# Altium schematic symbol library EPC_2019Q3.schlib: 54 symbols
Pins are listed as number, name and electrical type; pins without a type are passive.

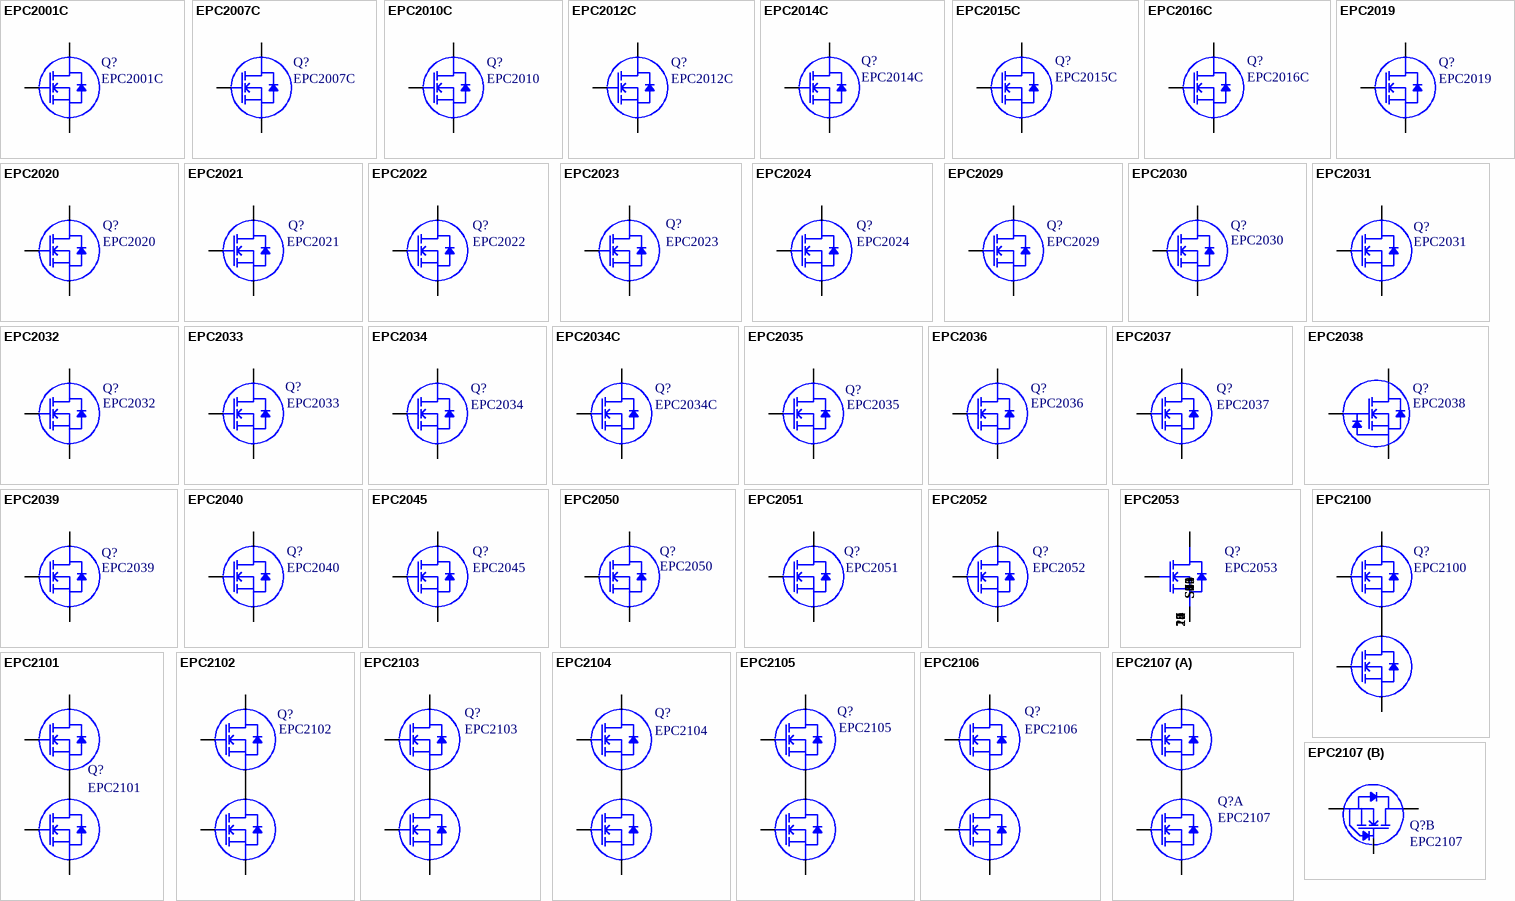
[diagram p0: symbols EPC2001C to EPC2107]

## EPC2001C
designator Q?
100V 25A 7mE; PCBfootprint: EPC2x40L; MFG: EPC; Config: *; Supplier 1: Digi-Key; Supplier 2: Digi-Key; Supplier 3: Digi-Key; Supplier Part Number 1: 917-1079-1-ND; Supplier Part Number 2: 917-1079-6-ND; Supplier Part Number 3: 917-1079-2-ND; Value: 100V 25A 7mE; MFGPN: EPC2001C
footprint D0188
pins: 1 G, 2 Sub (oe), 3 D1 (oc), 4 S1 (oe), 5 D2 (oc), 6 S2 (oe), 7 D3 (oc), 8 S3 (oe), 9 D4 (oc), 10 S4 (oe), 11 D5 (oc)

## EPC2007C
designator Q?
100V 6A 30mE; PCBfootprint: EPC2x40S; MFG: EPC; Config: *; Supplier 1: Digi-Key; Supplier 2: Digi-Key; Supplier 3: Digi-Key; Supplier Part Number 1: 917-1081-2-ND; Supplier Part Number 2: 917-1081-1-ND; Supplier Part Number 3: 917-1081-6-ND; Value: 100V 6A 30mE; MFGPN: EPC2007C
footprint D0199 (Footprint not found)
pins: 1 G, 2 Sub (oe), 3 D1 (oc), 4 S1 (oe), 5 D2 (oc)

## EPC2010C
designator Q?, comment EPC2010
200V 12A 25mE; PCBfootprint: EPC2x200L; MFG: EPC; Config: *; Supplier 1: Digi-Key; Supplier 2: Digi-Key; Supplier 3: Digi-Key; Supplier Part Number 1: 917-1085-6-ND; Supplier Part Number 2: 917-1085-1-ND; Supplier Part Number 3: 917-1085-2-ND; Value: 200V 12A 25mE; MFGPN: EPC2010
footprint D0309 (Footprint not found)
pins: 1 G, 2 Sub (oe), 3 D1 (oc), 4 S1 (oe), 5 D2 (oc), 6 S2 (oe), 7 D3 (oc)

## EPC2012C
designator Q?
200V 3A 100mE; PCBfootprint: EPC2x200S; MFG: EPC; Config: *; Supplier 1: Digi-Key; Supplier 2: Digi-Key; Supplier 3: Digi-Key; Supplier Part Number 1: 917-1084-2-ND; Supplier Part Number 2: 917-1084-1-ND; Supplier Part Number 3: 917-1084-6-ND; Value: 200V 3A 100mE; MFGPN: EPC2012C
footprint D0375 (Footprint not found)
pins: 1 G, 2 Sub (oe), 3 D (oc), 4 S (oe)

## EPC2014C
designator Q?
40V 10A 16mE; PCBfootprint: EPC2x40S; MFG: EPC; Config: *; Supplier 1: Digi-Key; Supplier 2: Digi-Key; Supplier 3: Digi-Key; Supplier Part Number 1: 917-1082-1-ND; Supplier Part Number 2: 917-1082-6-ND; Supplier Part Number 3: 917-1082-2-ND; Value: 40V 10A 16mE; MFGPN: EPC2014C
footprint D0199 (Footprint not found)
pins: 1 G, 2 Sub (oe), 3 D1 (oc), 4 S1 (oe), 5 D2 (oc)

## EPC2015C
designator Q?
40V 33A 4mE; PCBfootprint: EPC2x40L; MFG: EPC; Config: *; Supplier 1: Digi-Key; Supplier 2: Digi-Key; Supplier 3: Digi-Key; Supplier Part Number 1: 917-1083-6-ND; Supplier Part Number 2: 917-1083-2-ND; Supplier Part Number 3: 917-1083-1-ND; Value: 40V 33A 4mE; MFGPN: EPC2015C
footprint D0188 (Footprint not found)
pins: 1 G, 2 Sub (oe), 3 D1 (oc), 4 S1 (oe), 5 D2 (oc), 6 S2 (oe), 7 D3 (oc), 8 S3 (oe), 9 D4 (oc), 10 S4 (oe), 11 D5 (oc)

## EPC2016C
designator Q?
100V 11A 16mE; PCBfootprint: EPC2x40M; MFG: EPC; Config: *; Supplier 1: Digi-Key; Supplier 2: Digi-Key; Supplier 3: Digi-Key; Supplier Part Number 1: 917-1080-1-ND; Supplier Part Number 2: 917-1080-6-ND; Supplier Part Number 3: 917-1080-2-ND; Value: 100V 11A 16mE; MFGPN: EPC2016C
footprint D0155 (Footprint not found)
pins: 1 G, 2 Sub (oe), 3 D1 (oc), 4 SP1 (oe), 5 D2 (oc), 6 SP2 (oe)

## EPC2019
designator Q?
200V 9A 43mE; PCBfootprint: M5_200V; MFG: EPC; Config: *; Supplier 1: Digi-Key; Supplier 2: Digi-Key; Supplier 3: Digi-Key; Supplier Part Number 1: 917-1087-1-ND; Supplier Part Number 2: 917-1087-2-ND; Supplier Part Number 3: 917-1087-6-ND; Value: 200V 9A 43mE; MFGPN: EPC2019
footprint D0364 (Footprint not found)
pins: 1 G, 2 S3 (oe), 3 D1 (oc), 4 S1 (oe), 5 D2 (oc), 6 S2 (oe), 7 Sub (oe)

## EPC2020
designator Q?
60V 60A 2.2mE; PCBfootprint: eGaNPAK; MFG: EPC; Config: *; Supplier 1: Digi-Key; Supplier 2: Digi-Key; Supplier 3: Digi-Key; Supplier Part Number 1: 917-1105-1-ND; Supplier Part Number 2: 917-1105-2-ND; Supplier Part Number 3: 917-1105-6-ND; Value: 60V 60A 2.2mE; MFGPN: EPC2020
footprint D0232 (Footprint not found)
pins: 1 G, 2 S1 (oe), 3 D1 (oc), 4 D1 (oc), 5 S2 (oe), 6 S3 (oe), 7 D2 (oc), 8 D3 (oc), 9 S4 (oe), 10 S5 (oe), 11 D4 (oc), 12 D5 (oc), 13 S6 (oe), 14 S7 (oe), 15 D6 (oc), 16 D7 (oc), 17 S8 (oe), 18 S9 (oe), 19 D8 (oc), 20 D9 (oc), 21 S10 (oe), 22 S11 (oe), 23 D10 (oc), 24 D11 (oc), 25 S12 (oe), 26 S13 (oe), 27 D12 (oc), 28 D13 (oc), 29 S14 (oe), 30 Sub (oe)

## EPC2021
designator Q?
80V 60A 2.5mE; PCBfootprint: eGaNPAK; MFG: EPC; Config: *; Supplier 1: Digi-Key; Supplier 2: Digi-Key; Supplier 3: Digi-Key; Supplier Part Number 1: 917-1089-1-ND; Supplier Part Number 2: 917-1089-2-ND; Supplier Part Number 3: 917-1089-6-ND; Value: 80V 60A 2.5mE; MFGPN: EPC2021
footprint D0232 (Footprint not found)
pins: 1 G, 2 S1 (oe), 3 D1 (oc), 4 D2 (oc), 5 S2 (oe), 6 S3 (oe), 7 D3 (oc), 8 D4 (oc), 9 S4 (oe), 10 S5 (oe), 11 D5 (oc), 12 D6 (oc), 13 S6 (oe), 14 S7 (oe), 15 D7 (oc), 16 D8 (oc), 17 S8 (oe), 18 S9 (oe), 19 D9 (oc), 20 D10 (oc), 21 S10 (oe), 22 S11 (oe), 23 D11 (oc), 24 D12 (oc), 25 S12 (oe), 26 S13 (oe), 27 D13 (oc), 28 D14 (oc), 29 S14 (oe), 30 Sub (oe)

## EPC2022
designator Q?
100V 60A 3.2mE; PCBfootprint: eGaNPAK; MFG: EPC; Config: *; Supplier 1: Digi-Key; Supplier 2: Digi-Key; Supplier 3: Digi-Key; Supplier Part Number 1: 917-1133-2-ND; Supplier Part Number 2: 917-1133-1-ND; Supplier Part Number 3: 917-1133-6-ND; Value: 100V 60A 3.2mE; MFGPN: EPC2022
footprint D0232 (Footprint not found)
pins: 1 G, 2 S1 (oe), 3 D1 (oc), 4 D2 (oc), 5 S2 (oe), 6 S3 (oe), 7 D3 (oc), 8 D4 (oc), 9 S4 (oe), 10 S5 (oe), 11 D5 (oc), 12 D6 (oc), 13 S6 (oe), 14 S7 (oe), 15 D7 (oc), 16 D8 (oc), 17 S8 (oe), 18 S9 (oe), 19 D9 (oc), 20 D10 (oc), 21 S10 (oe), 22 S11 (oe), 23 D11 (oc), 24 D12 (oc), 25 S12 (oe), 26 S13 (oe), 27 D13 (oc), 28 D14 (oc), 29 S14 (oe), 30 Sub (oe)

## EPC2023
designator Q?
30V 60A 1.3mE; PCBfootprint: eGaNPAK; MFG: EPC; Config: *; Supplier 1: Digi-Key; Supplier 2: Digi-Key; Supplier 3: Digi-Key; Supplier Part Number 1: 917-EPC2023ENGRTR-ND; Supplier Part Number 2: 917-EPC2023ENGRDKR-ND; Supplier Part Number 3: 917-EPC2023ENGRCT-ND; Value: 30V 60A 1.3mE; MFGPN: EPC2023
footprint D0232 (Footprint not found)
pins: 1 G, 2 S1 (oe), 3 D1 (oc), 4 D2 (oc), 5 S2 (oe), 6 S3 (oe), 7 D3 (oc), 8 D4 (oc), 9 S4 (oe), 10 S5 (oe), 11 D5 (oc), 12 D6 (oc), 13 S6 (oe), 14 S7 (oe), 15 D7 (oc), 16 D8 (oc), 17 S8 (oe), 18 S9 (oe), 19 D9 (oc), 20 D10 (oc), 21 S10 (oe), 22 S11 (oe), 23 D11 (oc), 24 D12 (oc), 25 S12 (oe), 26 S13 (oe), 27 D13 (oc), 28 D14 (oc), 29 S14 (oe), 30 Sub (oe)

## EPC2024
designator Q?
40V 60A 1.5mE; PCBfootprint: eGaNPAK; MFG: EPC; Config: *; Supplier 1: Digi-Key; Supplier 2: Digi-Key; Supplier 3: Digi-Key; Supplier Part Number 1: 917-1106-2-ND; Supplier Part Number 2: 917-1106-1-ND; Supplier Part Number 3: 917-1106-6-ND; Value: 40V 60A 1.5mE; MFGPN: EPC2024
footprint D0232 (Footprint not found)
pins: 1 G, 2 S1 (oe), 3 D1 (oc), 4 D2 (oc), 5 S2 (oe), 6 S3 (oe), 7 D3 (oc), 8 D4 (oc), 9 S4 (oe), 10 S5 (oe), 11 D5 (oc), 12 D6 (oc), 13 S6 (oe), 14 S7 (oe), 15 D7 (oc), 16 D8 (oc), 17 S8 (oe), 18 S9 (oe), 19 D9 (oc), 20 D10 (oc), 21 S10 (oe), 22 S11 (oe), 23 D11 (oc), 24 D12 (oc), 25 S12 (oe), 26 S13 (oe), 27 D13 (oc), 28 D14 (oc), 29 S14 (oe), 30 Sub (oe)

## EPC2029
designator Q?
80V 3.2mE; PCBfootprint: eGaNPAK; MFG: EPC; Config: *; Supplier 1: Digi-Key; Supplier 2: Digi-Key; Supplier 3: Digi-Key; Supplier Part Number 1: 917-1107-1-ND; Supplier Part Number 2: 917-1107-2-ND; Supplier Part Number 3: 917-1107-6-ND; Value: 80V 3.2mE; MFGPN: EPC2029
footprint D0386T3 (Footprint not found)
footprint D0386T4 (Footprint not found)
pins: 1 G, 2 G, 3 S1 (oe), 4 S2 (oe), 5 D1 (oc), 6 D2 (oc), 7 D3 (oc), 8 D4 (oc), 9 D5 (oc), 10 S3 (oe), 11 S4 (oe), 12 Sub (oe), 13 S5 (oe), 14 S6 (oe), 15 D6 (oc), 16 D7 (oc), 17 D8 (oc), 18 D9 (oc), 19 D10 (oc), 20 S7 (oe), 21 S8 (oe), 22 S9 (oe), 23 S10 (oe), 24 S11 (oe)

## EPC2030
designator Q?
40V 2.4mE; PCBfootprint: eGaNPAK; MFG: EPC; Config: *; Supplier 1: Digi-Key; Supplier 2: Digi-Key; Supplier 3: Digi-Key; Supplier Part Number 1: 917-EPC2030ENGRCT-ND; Supplier Part Number 2: 917-EPC2030ENGRTR-ND; Supplier Part Number 3: 917-EPC2030ENGRDKR-ND; Value: 40V 2.4mE; MFGPN: EPC2030
footprint D0386T3 (Footprint not found)
footprint D0386T4 (Footprint not found)
pins: 1 G, 2 G, 3 S1 (oe), 4 S2 (oe), 5 D1 (oc), 6 D2 (oc), 7 D3 (oc), 8 D4 (oc), 9 D5 (oc), 10 S3 (oe), 11 S4 (oe), 12 Sub (oe), 13 S5 (oe), 14 S6 (oe), 15 D6 (oc), 16 D7 (oc), 17 D8 (oc), 18 D9 (oc), 19 D10 (oc), 20 S7 (oe), 21 S8 (oe), 22 S9 (oe), 23 S10 (oe), 24 S11 (oe)

## EPC2031
designator Q?
60V 2.6mE; PCBfootprint: eGaNPAK; MFG: EPC; Config: *; Supplier 1: Digi-Key; Supplier 2: Digi-Key; Supplier 3: Digi-Key; Supplier Part Number 1: 917-EPC2031ENGRDKR-ND; Supplier Part Number 2: 917-EPC2031ENGRTR-ND; Supplier Part Number 3: 917-EPC2031ENGRCT-ND; Value: 60V 2.6mE; MFGPN: EPC2031
footprint D0386T3 (Footprint not found)
footprint D0386T4 (Footprint not found)
pins: 1 G, 2 G, 3 S1 (oe), 4 S2 (oe), 5 D1 (oc), 6 D2 (oc), 7 D3 (oc), 8 D4 (oc), 9 D5 (oc), 10 S3 (oe), 11 S4 (oe), 12 Sub (oe), 13 S5 (oe), 14 S6 (oe), 15 D6 (oc), 16 D7 (oc), 17 D8 (oc), 18 D9 (oc), 19 D10 (oc), 20 S7 (oe), 21 S8 (oe), 22 S9 (oe), 23 S10 (oe), 24 S11 (oe)

## EPC2032
designator Q?
100V 4mE; PCBfootprint: eGaNPAK; MFG: EPC; Config: *; Value: 100V 4mE; Supplier 1: Digi-Key; Supplier 2: Digi-Key; Supplier 3: Digi-Key; Supplier Part Number 1: 917-1126-6-ND; Supplier Part Number 2: 917-1126-2-ND; Supplier Part Number 3: 917-1126-1-ND; MFGPN: EPC2032
footprint D0386T3 (Footprint not found)
footprint D0386T4 (Footprint not found)
pins: 1 G, 2 G, 3 S1 (oe), 4 S2 (oe), 5 D1 (oc), 6 D2 (oc), 7 D3 (oc), 8 D4 (oc), 9 D5 (oc), 10 S3 (oe), 11 S4 (oe), 12 Sub (oe), 13 S5 (oe), 14 S6 (oe), 15 D6 (oc), 16 D7 (oc), 17 D8 (oc), 18 D9 (oc), 19 D10 (oc), 20 S7 (oe), 21 S8 (oe), 22 S9 (oe), 23 S10 (oe), 24 S11 (oe)

## EPC2033
designator Q?
150V 7mE; PCBfootprint: eGaNPAK; MFG: EPC; Config: *; Value: 150V 7mE; Supplier 1: Digi-Key; Supplier 2: Digi-Key; Supplier 3: Digi-Key; Supplier Part Number 1: 917-EPC2033ENGRTR-ND; Supplier Part Number 2: 917-EPC2033ENGRCT-ND; Supplier Part Number 3: 917-EPC2033ENGRDKR-ND; MFGPN: EPC2033
footprint D0386T3 (Footprint not found)
footprint D0386T4 (Footprint not found)
pins: 1 G, 2 G, 3 S1 (oe), 4 S2 (oe), 5 D1 (oc), 6 D2 (oc), 7 D3 (oc), 8 D4 (oc), 9 D5 (oc), 10 S3 (oe), 11 S4 (oe), 12 Sub (oe), 13 S5 (oe), 14 S6 (oe), 15 D6 (oc), 16 D7 (oc), 17 D8 (oc), 18 D9 (oc), 19 D10 (oc), 20 S7 (oe), 21 S8 (oe), 22 S9 (oe), 23 S10 (oe), 24 S11 (oe)

## EPC2034
designator Q?
200V 10mE; PCBfootprint: eGaNPAK; MFG: EPC; Config: *; Value: 200V 10mE; Supplier 1: Digi-Key; Supplier 2: Digi-Key; Supplier 3: Digi-Key; Supplier Part Number 1: 917-EPC2034ENGRCT-ND; Supplier Part Number 2: 917-EPC2034ENGRTR-ND; Supplier Part Number 3: 917-EPC2034ENGRDKR-ND; MFGPN: EPC2034
footprint D0386T3 (Footprint not found)
footprint D0386T4 (Footprint not found)
pins: 1 G, 2 G, 3 S1 (oe), 4 S2 (oe), 5 D1 (oc), 6 D2 (oc), 7 D3 (oc), 8 D4 (oc), 9 D5 (oc), 10 S3 (oe), 11 S4 (oe), 12 Sub (oe), 13 S5 (oe), 14 S6 (oe), 15 D6 (oc), 16 D7 (oc), 17 D8 (oc), 18 D9 (oc), 19 D10 (oc), 20 S7 (oe), 21 S8 (oe), 22 S9 (oe), 23 S10 (oe), 24 S11 (oe)

## EPC2034C
designator Q?
200V 8mE; PCBfootprint: eGaNPAK; MFG: EPC; Config: *; Value: 200V 8mE; Supplier 1: Digi-Key; Supplier 2: Digi-Key; Supplier 3: Digi-Key; Supplier Part Number 1: 917-1214-1-ND; Supplier Part Number 2: 917-1214-6-ND; Supplier Part Number 3: 917-1214-2-ND; MFGPN: EPC2034C
footprint D0386T3 (Footprint not found)
footprint D0386T4 (Footprint not found)
pins: 1 G, 2 G, 3 S1 (oe), 4 S2 (oe), 5 D1 (oc), 6 D2 (oc), 7 D3 (oc), 8 D4 (oc), 9 D5 (oc), 10 S3 (oe), 11 S4 (oe), 12 Sub (oe), 13 S5 (oe), 14 S6 (oe), 15 D6 (oc), 16 D7 (oc), 17 D8 (oc), 18 D9 (oc), 19 D10 (oc), 20 S7 (oe), 21 S8 (oe), 22 S9 (oe), 23 S10 (oe), 24 S11 (oe)

## EPC2035
designator Q?
60V 45mE; MFG: EPC; Config: *; Footprint: EPC2Xby2; Supplier 1: Digi-Key; Supplier 2: Digi-Key; Supplier 3: Digi-Key; Value: 60V 45mE; Supplier Part Number 1: 917-1099-2-ND; Supplier Part Number 2: 917-1099-6-ND; Supplier Part Number 3: 917-1099-1-ND; MFGPN: EPC2035
footprint D0353 (Footprint not found)
pins: 1 G, 2 S1 (oe), 3 D1 (oc), 4 S2 (oe)

## EPC2036
designator Q?
100V 65mE; MFG: EPC; Cinfig: *; Footprint: EPC2Xby2; Supplier 1: Digi-Key; Supplier 2: Digi-Key; Supplier 3: Digi-Key; Value: 100V 65mE; Supplier Part Number 2: 917-1100-2-ND; Supplier Part Number 3: 917-1100-6-ND; Supplier Part Number 1: 917-1100-1-ND; MFGPN: EPC2036
footprint D0353 (Footprint not found)
pins: 1 G, 2 S1 (oe), 3 D1 (oc), 4 S2 (oe)

## EPC2037
designator Q?
100V 550mE; MFG: EPC; Config: *; Footprint: EPC2Xby2; Supplier 1: Digi-Key; Supplier 2: Digi-Key; Supplier 3: Digi-Key; Value: 100V 550mE; Supplier Part Number 1: 917-EPC2037ENGRTR-ND; Supplier Part Number 2: 917-EPC2037ENGRCT-ND; Supplier Part Number 3: 917-EPC2037ENGRDKR-ND; MFGPN: EPC2037
footprint D0353 (Footprint not found)
pins: 1 G, 2 S1 (oe), 3 D1 (oc), 4 S2 (oe)

## EPC2038
designator Q?
100V 2800mE; MFG: EPC; Config: *; Footprint: EPC2Xby2; Supplier 1: Digi-Key; Supplier 2: Digi-Key; Supplier 3: Digi-Key; Value: 100V 2800mE; Supplier Part Number 2: 917-1138-2-ND; Supplier Part Number 3: 917-1138-6-ND; Supplier Part Number 1: 917-1138-1-ND; MFGPN: EPC2038
footprint D0353 (Footprint not found)
pins: 1 G, 2 S1 (oe), 3 D1 (oc), 4 S2 (oe)

## EPC2039
designator Q?
80V 22mE; MFG: EPC; Config: *; Footprint: EPC3Xby3; Supplier 1: Digi-Key; Supplier 2: Digi-Key; Supplier 3: Digi-Key; Value: 80V 22mE; Supplier Part Number 1: 917-1147-1-ND; Supplier Part Number 2: 917-1147-2-ND; Supplier Part Number 3: 917-1147-6-ND; MFGPN: EPC2039
footprint D0144 (Footprint not found)
pins: 1 G, 2 S1 (oe), 3 S2 (oe), 4 D1 (oc), 5 D2 (oc), 6 D3 (oc), 7 D4 (oc), 8 S3 (oe), 9 S4 (oe)

## EPC2040
designator Q?
15V 3.4A 28mE; PCBfootprint: EPC2x3; MFG: EPC; Config: *; Supplier 1: Digi-Key; Supplier 2: Digi-Key; Supplier 3: Digi-Key; Value: 15V 3.4A 28mE; Supplier Part Number 1: 917-1153-2-ND; Supplier Part Number 2: 917-1153-1-ND; Supplier Part Number 3: 917-1153-6-ND; MFGPN: EPC2040
footprint D0210 (Footprint not found)
pins: 1 G, 2 D1 (oc), 3 S1 (oe), 4 S2 (oe), 5 D2 (oc), 6 S3 (oe)

## EPC2045
designator Q?
100V Gen5 25A 9mE; PCBfootprint: Gen5_100VB; MFG: EPC; Value: 100V 25A 9mE; Config: *; Supplier 1: Digi-Key; Supplier 2: Digi-Key; Supplier 3: Digi-Key; Supplier Part Number 1: 917-EPC2045ENGRTR-ND; Supplier Part Number 2: 917-EPC2045ENGRDKR-ND; Supplier Part Number 3: 917-EPC2045ENGRCT-ND; MFGPN: EPC2045
footprint D0012 (Footprint not found)
pins: 1 G, 2 S1 (oe), 3 S2 (oe), 4 D1 (oc), 5 D2 (oc), 6 D3 (oc), 7 S3 (oe), 8 Sub (oe), 9 S4 (oe), 10 D4 (oc), 11 D5 (oc), 12 D6 (oc), 13 S5 (oe), 14 S6 (oe), 15 S7 (oe)

## EPC2050
designator Q?
350V 6.3A 65mE; MFG: EPC; Config: *; MFGPN: EPC2050
footprint D0078 (350V Gen5)
pins: 1 G, 2 S1 (oe), 3 S2 (oe), 4 S3 (oe), 5 D1 (oc), 6 D2 (oc), 7 D3 (oc), 8 D4 (oc), 9 S4 (oe), 10 S5 (oe), 11 Sub (oe), 12 S6 (oe)

## EPC2051
designator Q?
100V 3.4A 26mE; PCBfootprint: BGA2x3; MFG: EPC; Config: *; Supplier 1: Digi-Key; Supplier 2: Digi-Key; Supplier 3: Digi-Key; Value: 100V 3.4A 26m; MFGPN: EPC2051
footprint D0001 (Footprint not found)
pins: 1 G, 2 S1 (oe), 3 D1 (oc), 4 D2 (oc), 5 S2 (oe), 6 Sub (oe)

## EPC2052
designator Q?
100V Gen5 8A 10mE; MFG: EPC; PCBfootprint: EPC2052; Config: *; MFGPN: EPC2052
footprint D0045 (Footprint not found)
pins: 1 G, 2 S1 (oe), 3 S2 (oe), 4 D1 (oc), 5 D2 (oc), 6 D3 (oc), 7 S3 (oe), 8 S5 (oe), 9 S4 (oe)

## EPC2053
designator Q?
100V Gen5 32A 4mE; MFG: EPC; Config: *; MFGPN: EPC2053
footprint D0034 (Footprint not found)
pins: 1 G, 2 S1 (oe), 3 S2 (oe), 4 S3 (oe), 5 D1 (oc), 6 D2 (oc), 7 D3 (oc), 8 D4 (oc), 9 S4 (oe), 10 S5 (oe), 11 S6 (oe), 12 S7 (oe), 13 D5 (oc), 14 D6 (oc), 15 D7 (oc), 16 D8 (oc), 17 S8 (oe), 18 S9 (oe), 19 S10 (oe), 20 S11 (oe), 21 D9 (oc), 22 D10 (oc), 23 D11 (oc), 24 D12 (oc), 25 S12 (oe), 26 S13 (oe), 27 S14 (oe), 28 S15 (oe)

## EPC2100
designator Q?
30V 1:4 HB; PCBfootprint: eGaNPAK; MFG: EPC; Value: 1:4 HB; Config: *; Supplier 1: Digi-Key; Supplier 2: Digi-Key; Supplier 3: Digi-Key; Supplier Part Number 1: 917-1180-1-ND; Supplier Part Number 2: 917-1180-2-ND; Supplier Part Number 3: 917-1180-6-ND; MFGPN: EPC2100
footprint D0342 (Footprint not found)
pins: 1 D1 (oc), 2 G1, 3 SG1, 4 G2, 5 S2 (oe), 6 S1 (oe), 7 D2 (oc), 8 D2 (oc), 9 D2 (oc), 10 D2 (oc), 11 D1 (oc), 12 S2 (oe), 13 S2 (oe), 14 S2 (oe), 15 S2 (oe), 16 S1 (oe), 17 D2 (oc), 18 D2 (oc), 19 D2 (oc), 20 D2 (oc), 21 D1 (oc), 22 S2 (oe), 23 S2 (oe), 24 S2 (oe), 25 S2 (oe), 26 S1 (oe), 27 D2 (oc), 28 D2 (oc), 29 D2 (oc), 30 D2 (oc), 31 D1 (oc), 32 S2 (oe), 33 S2 (oe), 34 S2 (oe), 35 S2 (oe), 36 S1 (oe), 37 D2 (oc), 38 D2 (oc), 39 D2 (oc), 40 D2 (oc), 41 D1 (oc), 42 S2 (oe), 43 S2 (oe), 44 S2 (oe), 45 S2 (oe), 46 S1 (oe), 47 D2 (oc), 48 D2 (oc), 49 D2 (oc), 50 D2 (oc), 51 D1 (oc), 52 S2 (oe), 53 S2 (oe), 54 S2 (oe), 55 S2 (oe), 56 S1 (oe), 57 D2 (oc), 58 D2 (oc), 59 D2 (oc), 60 D2 (oc), 61 D1 (oc), 62 S2 (oe), 63 S2 (oe), 64 S2 (oe), 65 S2 (oe), 66 S1 (oe), 67 D2 (oc), 68 D2 (oc), 69 D2 (oc), 70 D2 (oc), 71 D1 (oc), 72 S2 (oe), 73 S2 (oe), 74 S2 (oe), 75 S2 (oe)

## EPC2101
designator Q?
60V 1:4 HB; PCBfootprint: eGaNPAK; MFG: EPC; Value: 1:4 HB; Config: *; Supplier 1: Digi-Key; Supplier 2: Digi-Key; Supplier 3: Digi-Key; Supplier Part Number 1: 917-1181-2-ND; Supplier Part Number 2: 917-1181-6-ND; Supplier Part Number 3: 917-1181-1-ND; MFGPN: EPC2101
footprint D0342 (Footprint not found)
pins: 1 D1 (oc), 2 G1, 3 SG1, 4 G2, 5 S2 (oe), 6 S1 (oe), 7 D2 (oc), 8 D2 (oc), 9 D2 (oc), 10 D2 (oc), 11 D1 (oc), 12 S2 (oe), 13 S2 (oe), 14 S2 (oe), 15 S2 (oe), 16 S1 (oe), 17 D2 (oc), 18 D2 (oc), 19 D2 (oc), 20 D2 (oc), 21 D1 (oc), 22 S2 (oe), 23 S2 (oe), 24 S2 (oe), 25 S2 (oe), 26 S1 (oe), 27 D2 (oc), 28 D2 (oc), 29 D2 (oc), 30 D2 (oc), 31 D1 (oc), 32 S2 (oe), 33 S2 (oe), 34 S2 (oe), 35 S2 (oe), 36 S1 (oe), 37 D2 (oc), 38 D2 (oc), 39 D2 (oc), 40 D2 (oc), 41 D1 (oc), 42 S2 (oe), 43 S2 (oe), 44 S2 (oe), 45 S2 (oe), 46 S1 (oe), 47 D2 (oc), 48 D2 (oc), 49 D2 (oc), 50 D2 (oc), 51 D1 (oc), 52 S2 (oe), 53 S2 (oe), 54 S2 (oe), 55 S2 (oe), 56 S1 (oe), 57 D2 (oc), 58 D2 (oc), 59 D2 (oc), 60 D2 (oc), 61 D1 (oc), 62 S2 (oe), 63 S2 (oe), 64 S2 (oe), 65 S2 (oe), 66 S1 (oe), 67 D2 (oc), 68 D2 (oc), 69 D2 (oc), 70 D2 (oc), 71 D1 (oc), 72 S2 (oe), 73 S2 (oe), 74 S2 (oe), 75 S2 (oe)

## EPC2102
designator Q?
60V 1:1 HB; PCBfootprint: eGaNPAK; MFG: EPC; Value: 1:1 HB; Config: *; Supplier 1: Digi-Key; Supplier 2: Digi-Key; Supplier 3: Digi-Key; Supplier Part Number 1: 917-1182-2-ND; Supplier Part Number 2: 917-1182-1-ND; Supplier Part Number 3: 917-1182-6-ND; MFGPN: EPC2102
footprint D0342 (Footprint not found)
pins: 1 D1 (oc), 2 G1, 3 SG1, 4 G2, 5 S2 (oe), 6 S1 (oe), 7 S1 (oc), 8 S1 (oc), 9 D2 (oc), 10 D2 (oc), 11 D1 (oc), 12 D1 (oe), 13 D1 (oe), 14 S2 (oe), 15 S2 (oe), 16 S1 (oe), 17 S1 (oc), 18 S1 (oc), 19 D2 (oc), 20 D2 (oc), 21 D1 (oc), 22 D1 (oe), 23 D1 (oe), 24 S2 (oe), 25 S2 (oe), 26 S1 (oe), 27 S1 (oc), 28 S1 (oc), 29 D2 (oc), 30 D2 (oc), 31 D1 (oc), 32 D1 (oe), 33 D1 (oe), 34 S2 (oe), 35 S2 (oe), 36 S1 (oe), 37 S1 (oc), 38 S1 (oc), 39 D2 (oc), 40 D2 (oc), 41 D1 (oc), 42 D1 (oe), 43 S2 (oe), 44 S2 (oe), 45 S2 (oe), 46 S1 (oe), 47 S1 (oc), 48 S1 (oc), 49 D2 (oc), 50 D2 (oc), 51 D1 (oc), 52 D1 (oe), 53 S2 (oe), 54 S2 (oe), 55 S2 (oe), 56 S1 (oe), 57 S1 (oc), 58 S1 (oc), 59 D2 (oc), 60 D2 (oc), 61 D1 (oc), 62 D1 (oe), 63 S2 (oe), 64 S2 (oe), 65 S2 (oe), 66 S1 (oe), 67 S1 (oc), 68 S1 (oc), 69 D2 (oc), 70 D2 (oc), 71 D1 (oc), 72 D1 (oe), 73 S2 (oe), 74 S2 (oe), 75 S2 (oe)

## EPC2103
designator Q?
80V 1:1 HB; PCBfootprint: eGaNPAK; MFG: EPC; Value: 1:1 HB; Config: *; Supplier 1: Digi-Key; Supplier 2: Digi-Key; Supplier 3: Digi-Key; Supplier Part Number 1: 917-1183-1-ND; Supplier Part Number 2: 917-1183-6-ND; Supplier Part Number 3: 917-1183-2-ND; MFGPN: EPC2103
footprint D0342 (Footprint not found)
pins: 1 D1 (oc), 2 G1, 3 SG1, 4 G2, 5 S2 (oe), 6 S1 (oe), 7 S1 (oc), 8 S1 (oc), 9 D2 (oc), 10 D2 (oc), 11 D1 (oc), 12 D1 (oe), 13 D1 (oe), 14 S2 (oe), 15 S2 (oe), 16 S1 (oe), 17 S1 (oc), 18 S1 (oc), 19 D2 (oc), 20 D2 (oc), 21 D1 (oc), 22 D1 (oe), 23 D1 (oe), 24 S2 (oe), 25 S2 (oe), 26 S1 (oe), 27 S1 (oc), 28 S1 (oc), 29 D2 (oc), 30 D2 (oc), 31 D1 (oc), 32 D1 (oe), 33 D1 (oe), 34 S2 (oe), 35 S2 (oe), 36 S1 (oe), 37 S1 (oc), 38 S1 (oc), 39 D2 (oc), 40 D2 (oc), 41 D1 (oc), 42 D1 (oe), 43 S2 (oe), 44 S2 (oe), 45 S2 (oe), 46 S1 (oe), 47 S1 (oc), 48 S1 (oc), 49 D2 (oc), 50 D2 (oc), 51 D1 (oc), 52 D1 (oe), 53 S2 (oe), 54 S2 (oe), 55 S2 (oe), 56 S1 (oe), 57 S1 (oc), 58 S1 (oc), 59 D2 (oc), 60 D2 (oc), 61 D1 (oc), 62 D1 (oe), 63 S2 (oe), 64 S2 (oe), 65 S2 (oe), 66 S1 (oe), 67 S1 (oc), 68 S1 (oc), 69 D2 (oc), 70 D2 (oc), 71 D1 (oc), 72 D1 (oe), 73 S2 (oe), 74 S2 (oe), 75 S2 (oe)

## EPC2104
designator Q?
100V 1:1 HB; PCBfootprint: eGaNPAK; MFG: EPC; Value: 1:1 HB; Config: *; Supplier 1: Digi-Key; Supplier 2: Digi-Key; Supplier 3: Digi-Key; Supplier Part Number 1: 917-1184-1-ND; Supplier Part Number 2: 917-1184-2-ND; Supplier Part Number 3: 917-1184-6-ND; MFGPN: EPC2104
footprint D0342 (Footprint not found)
pins: 1 D1 (oc), 2 G1, 3 SG1, 4 G2, 5 S2 (oe), 6 S1 (oe), 7 S1 (oc), 8 S1 (oc), 9 D2 (oc), 10 D2 (oc), 11 D1 (oc), 12 D1 (oe), 13 D1 (oe), 14 S2 (oe), 15 S2 (oe), 16 S1 (oe), 17 S1 (oc), 18 S1 (oc), 19 D2 (oc), 20 D2 (oc), 21 D1 (oc), 22 D1 (oe), 23 D1 (oe), 24 S2 (oe), 25 S2 (oe), 26 S1 (oe), 27 S1 (oc), 28 S1 (oc), 29 D2 (oc), 30 D2 (oc), 31 D1 (oc), 32 D1 (oe), 33 D1 (oe), 34 S2 (oe), 35 S2 (oe), 36 S1 (oe), 37 S1 (oc), 38 S1 (oc), 39 D2 (oc), 40 D2 (oc), 41 D1 (oc), 42 D1 (oe), 43 S2 (oe), 44 S2 (oe), 45 S2 (oe), 46 S1 (oe), 47 S1 (oc), 48 S1 (oc), 49 D2 (oc), 50 D2 (oc), 51 D1 (oc), 52 D1 (oe), 53 S2 (oe), 54 S2 (oe), 55 S2 (oe), 56 S1 (oe), 57 S1 (oc), 58 S1 (oc), 59 D2 (oc), 60 D2 (oc), 61 D1 (oc), 62 D1 (oe), 63 S2 (oe), 64 S2 (oe), 65 S2 (oe), 66 S1 (oe), 67 S1 (oc), 68 S1 (oc), 69 D2 (oc), 70 D2 (oc), 71 D1 (oc), 72 D1 (oe), 73 S2 (oe), 74 S2 (oe), 75 S2 (oe)

## EPC2105
designator Q?
80V 1:4 HB; PCBfootprint: eGaNPAK; MFG: EPC; Value: 1:4 HB; Config: *; Supplier 1: Digi-Key; Supplier 2: Digi-Key; Supplier 3: Digi-Key; Supplier Part Number 1: 917-1185-2-ND; Supplier Part Number 2: 917-1185-6-ND; Supplier Part Number 3: 917-1185-1-ND; MFGPN: EPC2105
footprint D0342 (Footprint not found)
pins: 1 D1 (oc), 2 G1, 3 SG1, 4 G2, 5 S2 (oe), 6 S1 (oe), 7 D2 (oc), 8 D2 (oc), 9 D2 (oc), 10 D2 (oc), 11 D1 (oc), 12 S2 (oe), 13 S2 (oe), 14 S2 (oe), 15 S2 (oe), 16 S1 (oe), 17 D2 (oc), 18 D2 (oc), 19 D2 (oc), 20 D2 (oc), 21 D1 (oc), 22 S2 (oe), 23 S2 (oe), 24 S2 (oe), 25 S2 (oe), 26 S1 (oe), 27 D2 (oc), 28 D2 (oc), 29 D2 (oc), 30 D2 (oc), 31 D1 (oc), 32 S2 (oe), 33 S2 (oe), 34 S2 (oe), 35 S2 (oe), 36 S1 (oe), 37 D2 (oc), 38 D2 (oc), 39 D2 (oc), 40 D2 (oc), 41 D1 (oc), 42 S2 (oe), 43 S2 (oe), 44 S2 (oe), 45 S2 (oe), 46 S1 (oe), 47 D2 (oc), 48 D2 (oc), 49 D2 (oc), 50 D2 (oc), 51 D1 (oc), 52 S2 (oe), 53 S2 (oe), 54 S2 (oe), 55 S2 (oe), 56 S1 (oe), 57 D2 (oc), 58 D2 (oc), 59 D2 (oc), 60 D2 (oc), 61 D1 (oc), 62 S2 (oe), 63 S2 (oe), 64 S2 (oe), 65 S2 (oe), 66 S1 (oe), 67 D2 (oc), 68 D2 (oc), 69 D2 (oc), 70 D2 (oc), 71 D1 (oc), 72 S2 (oe), 73 S2 (oe), 74 S2 (oe), 75 S2 (oe)

## EPC2106
designator Q?
100V 1:1 HB; PCBfootprint: eGaNPAK; MFG: EPC; Config: *; Supplier 1: Digi-Key; Supplier 2: Digi-Key; Supplier 3: Digi-Key; Value: 100V 1:1 HB; Supplier Part Number 1: 917-1110-1-ND; Supplier Part Number 2: 917-1110-2-ND; Supplier Part Number 3: 917-1110-6-ND; MFGPN: EPC2106
footprint D0144 (Footprint not found)
pins: 1 G1, 2 S1 (oe), 3 G2, 4 D1 (oc), 5 S1 (oe), 6 S2 (oe), 7 D1 (oc), 8 D2 (oc), 9 S2 (oe)

## EPC2107
designator Q?
100V 190mE with SB; PCBfootprint: TynE FET 3x3; MFG: EPC; Value: 60V 190mE with SB; Config: *; Supplier 1: Digi-Key; Supplier 2: Digi-Key; Supplier 3: Digi-Key; Supplier Part Number 1: 917-1168-6-ND; Supplier Part Number 2: 917-1168-2-ND; Supplier Part Number 3: 917-1168-1-ND; MFGPN: EPC2107
footprint D0144 (Footprint not found)
part A pins: 1 G1, 2 G2 (oc), 4 S1 (oe), 5 D2 (oe), 7 D1 (oe), 8 S2 (oe)
part B pins: 3 G3 (oe), 6 D3 (oc), 9 S3

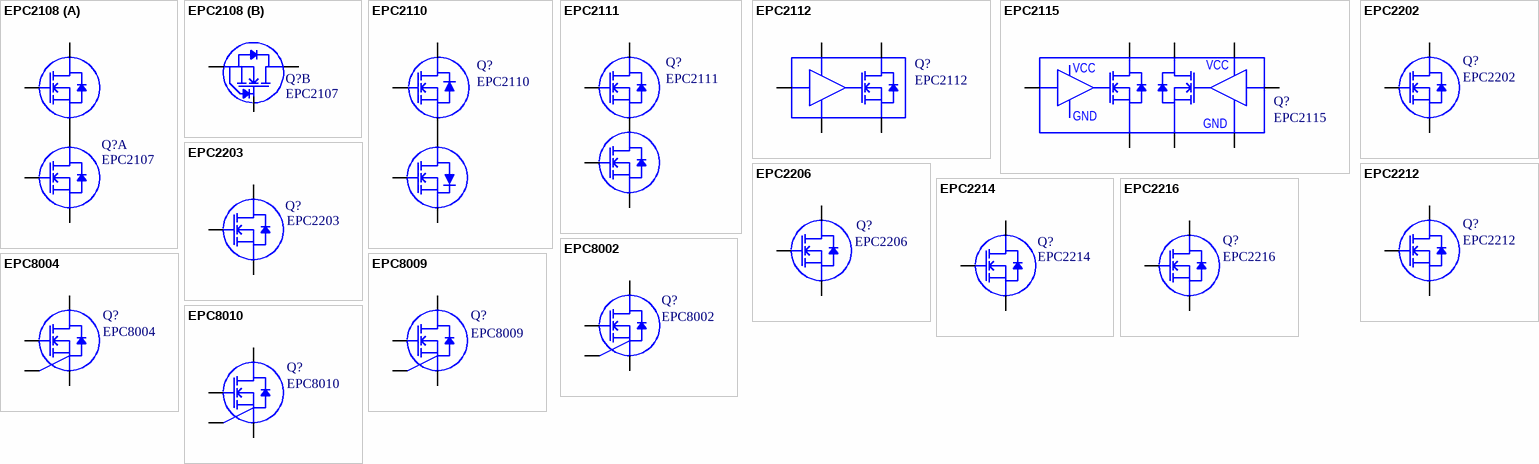
[diagram p1: symbols EPC2108 to EPC8010]

## EPC2108
designator Q?, comment EPC2107
100V 320mE with SB; PCBfootprint: TynE FET 3x3; MFG: EPC; Config: *; Supplier 1: Digi-Key; Supplier 2: Digi-Key; Supplier 3: Digi-Key; Value: 100V 320mE with SB; Supplier Part Number 1: 917-1168-2-ND; Supplier Part Number 2: 917-1168-6-ND; Supplier Part Number 3: 917-1168-1-ND; MFGPN: EPC2107
footprint D0144 (Footprint not found)
part A pins: 1 G1, 2 G2 (oc), 4 S1 (oe), 5 D2 (oe), 7 D1 (oe), 8 S2 (oe)
part B pins: 3 G3 (oe), 6 D3 (oc), 9 S3

## EPC2110
designator Q?
120V 1:1 Common Source; MFG: EPC; PCB Footprint: EPC2X_3by3; Config: *; Value: 120V 1:1 Common Source; Supplier 1: Digi-Key; Supplier 2: Digi-Key; Supplier 3: Digi-Key; Supplier Part Number 1: 917-1152-2-ND; Supplier Part Number 2: 917-1152-1-ND; Supplier Part Number 3: 917-1152-6-ND; MFGPN: EPC2110
footprint D0144 (Footprint not found)
pins: 1 G1, 2 D1 (oe), 3 D1 (oe), 4 S (oc), 5 S (oe), 6 S (oe), 7 G2, 8 D2 (oc), 9 D2 (oc)

## EPC2111
designator Q?
30 V HB 19mE/8mE; PCBfootprint: Gen5_100VA; MFG: EPC; Config: *; Supplier 1: Digi-Key; Supplier 2: Digi-Key; Supplier 3: Digi-Key; Supplier Part Number 1: 917-1174-2-ND; Supplier Part Number 2: 917-1174-1-ND; Supplier Part Number 3: 917-1174-6-ND; MFGPN: EPC2111
footprint D0331 (Footprint not found)
pins: 1 G1 (power), 2 VSW1 (power), 3 G2, 4 VIN1 (power), 5 VSW2 (power), 6 GND1 (power), 7 VIN2 (power), 8 VSW3 (power), 9 GND2 (power), 10 VIN3 (power), 11 VSW4 (power), 12 GND3 (power), 13 VIN4 (power), 14 VSW5 (power), 15 GND4 (power), 16 VIN5 (power), 17 VSW6 (power), 18 GND5 (power), 19 VIN6 (power), 20 VSW7 (power), 21 GND6 (power)

## EPC2112
designator Q?
200 V 40mE with driver; MFG: EPC; PCBfootprint: EPC21xx_200V_IC; Config: *; Value: EPC2112; MFGPN: EPC2112
footprint D0397 (Footprint not found)
pins: 1 In, 2 Vcc, 3 Gnd, 4 D, 5 S, 6 D, 7 S, 8 D, 9 S, 10 D

## EPC2115
designator Q?
150 V 1:1 Common Source with drivers; MFG: EPC; Config: *; MFGPN: EPC2115
footprint D0397 (Footprint not found)
pins: 1 In1, 2 D1, 3 S, 4 D1, 5 Gnd, 6 Vcc, 7 S, 8 D2, 9 In2, 10 D2
text: VCC; GND

## EPC2202
designator Q?
80V 11A 17mE; PCBfootprint: D0155; MFG: EPC; Value: 100V 11A 13.5mE; Config: *; Supplier 1: Digi-Key; Supplier 2: Digi-Key; Supplier 3: Digi-Key; MFGPN: EPC2202; Supplier Part Number 1: 917-1199-2-ND; Supplier Part Number 2: 917-1199-6-ND; Supplier Part Number 3: 917-1199-1-ND
footprint D0155 (Footprint not found)
pins: 1 G, 2 Sub (oe), 3 D1 (oc), 4 SP1 (oe), 5 D2 (oc), 6 SP2 (oe)

## EPC2203
designator Q?
80V 1.7A 80mE; MFG: EPC; Config: *; Footprint: EPC2Xby2; Supplier 1: Digi-Key; Supplier 2: Digi-Key; Supplier 3: Digi-Key; Value: 80V 1.7A 80mE; MFGPN: EPC2203; Supplier Part Number 1: 917-1200-1-ND; Supplier Part Number 2: 917-1200-6-ND; Supplier Part Number 3: 917-1200-2-ND
footprint D0353 (Footprint not found)
pins: 1 G, 2 S1 (oe), 3 D1 (oc), 4 S2 (oe)

## EPC2206
designator Q?
80V 90A 2.2mE; PCBfootprint: eGaNPAK; MFG: EPC; Config: *; Supplier 1: Digi-Key; Supplier 2: Digi-Key; Supplier 3: Digi-Key; Value: 80V 90A 2.2mE; MFGPN: EPC2206; Supplier Part Number 1: 917-1212-1-ND; Supplier Part Number 2: 917-1212-6-ND; Supplier Part Number 3: 917-1212-2-ND
footprint D0232 (Footprint not found)
pins: 1 G, 2 S1 (oe), 3 D1 (oc), 4 D2 (oc), 5 S2 (oe), 6 S3 (oe), 7 D3 (oc), 8 D4 (oc), 9 S4 (oe), 10 S5 (oe), 11 D5 (oc), 12 D6 (oc), 13 S6 (oe), 14 S7 (oe), 15 D7 (oc), 16 D8 (oc), 17 S8 (oe), 18 S9 (oe), 19 D9 (oc), 20 D10 (oc), 21 S10 (oe), 22 S11 (oe), 23 D11 (oc), 24 D12 (oc), 25 S12 (oe), 26 S13 (oe), 27 D13 (oc), 28 D14 (oc), 29 S14 (oe), 30 Sub (oe)

## EPC2212
designator Q?
100V 11A 13.5mE; PCBfootprint: D0155; MFG: EPC; Config: *; Supplier 1: Digi-Key; Supplier 2: Digi-Key; Supplier 3: Digi-Key; Value: 100V 11A 13.5mE; MFGPN: EPC2212; Supplier Part Number 1: 917-1211-1-ND; Supplier Part Number 2: 917-1211-6-ND; Supplier Part Number 3: 917-1211-2-ND
footprint D0155 (Footprint not found)
pins: 1 G, 2 Sub (oe), 3 D1 (oc), 4 SP1 (oe), 5 D2 (oc), 6 SP2 (oe)

## EPC2214
designator Q?
80V 10 20mE; MFG: EPC; Value: 80V 10A 20mE; Config: *; Footprint: D0166; MFGPN: EPC2214; Supplier 1: Digi-Key; Supplier 2: Digi-Key; Supplier 3: Digi-Key; Supplier Part Number 1: 917-1213-1-ND; Supplier Part Number 2: 917-1213-6-ND; Supplier Part Number 3: 917-1213-2-ND
footprint D0166
pins: 1 G, 2 S1 (oe), 3 S2 (oe), 4 D1 (oc), 5 D2 (oc), 6 D3 (oc), 7 D4 (oc), 8 S3 (oe), 9 S4 (oe)

## EPC2216
designator Q?
15V 3.4A 26mE; PCBfootprint: D0210; MFG: EPC; Config: *; Value: 15V 3.4A 26mE; MFGPN: EPC2216
footprint D0210 (Footprint not found)
pins: 1 G, 2 D1 (oc), 3 S1 (oe), 4 S2 (oe), 5 D2 (oc), 6 S3 (oe)

## EPC8002
designator Q?
65V 2A 530m; PCBfootprint: EPC8000; MFG: EPC; Config: *; Supplier 1: Digi-Key; Supplier 2: Digi-Key; Supplier 3: Digi-Key; Value: 65V 2A 530m; Supplier Part Number 1: 917-1118-2-ND; Supplier Part Number 2: 917-1118-1-ND; Supplier Part Number 3: 917-1118-6-ND; MFGPN: EPC8002
footprint D0221 (Footprint not found)
pins: 1 G, 2 SG (oe), 3 SP1 (oe), 4 D (oc), 5 SP2 (oe), 6 Sub (oe)

## EPC8004
designator Q?
40V 4.4A 125m; PCBfootprint: EPC8000; MFG: EPC; Config: *; Supplier 1: Digi-Key; Supplier 2: Digi-Key; Supplier 3: Digi-Key; Value: 40V 4.4A 125m; Supplier Part Number 1: 917-1072-2-ND; Supplier Part Number 2: 917-1072-6-ND; Supplier Part Number 3: 917-1072-1-ND; MFGPN: EPC8004
footprint D0221 (Footprint not found)
pins: 1 G, 2 SG (oe), 3 SP1 (oe), 4 D (oc), 5 SP2 (oe), 6 Sub (oe)

## EPC8009
designator Q?
65V 2.7A 130m; PCBfootprint: D0221; MFG: EPC; Config: *; Supplier 1: Digi-Key; Supplier 2: Digi-Key; Supplier 3: Digi-Key; Value: 65V 2.7A 130m; Supplier Part Number 1: 917-1078-2-ND; Supplier Part Number 2: 917-1078-6-ND; Supplier Part Number 3: 917-1078-1-ND; MFGPN: EPC8009
footprint D0221 (Footprint not found)
pins: 1 G, 2 SG (oe), 3 SP1 (oe), 4 D (oc), 5 SP2 (oe), 6 Sub (oe)

## EPC8010
designator Q?
100V 2.7A 160m; PCBfootprint: EPC8000; MFG: EPC; Config: *; Supplier 1: Digi-Key; Supplier 2: Digi-Key; Supplier 3: Digi-Key; Value: 100V 2.7A 160m; Supplier Part Number 1: 917-1086-2-ND; Supplier Part Number 2: 917-1086-1-ND; Supplier Part Number 3: 917-1086-6-ND; MFGPN: EPC8010
footprint D0221 (Footprint not found)
pins: 1 G, 2 SG (oe), 3 SP1 (oe), 4 D (oc), 5 SP2 (oe), 6 Sub (oe)